# EAGLE library part ISM300F2 (library ISM300F2)
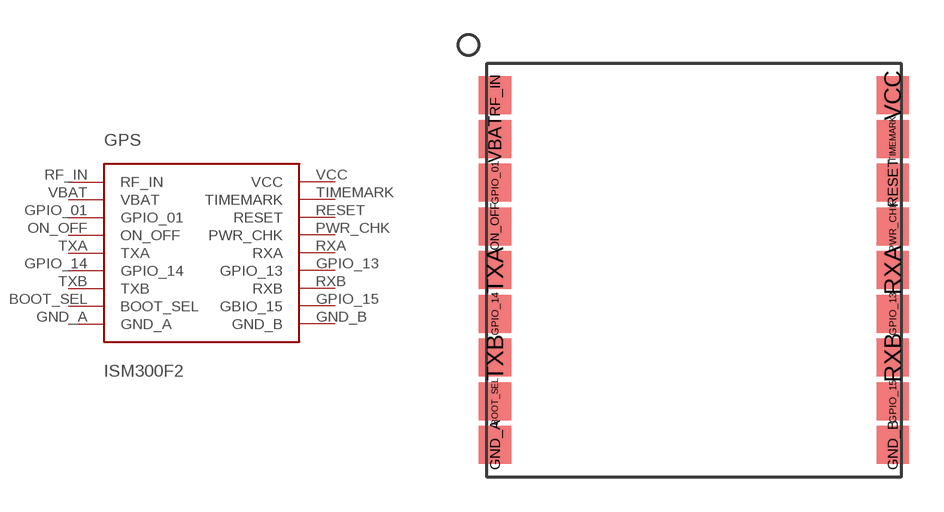
[diagram p0: symbol with the pads of ISM300F2; footprint ISM300F2]

Designator prefix GPS

## ISM300F2  [ISM300F2]
BOOT_SEL  BOOT_SEL
GND_A  GND_A
GND_B  GND_B
GPIO_01  GPIO_01
GPIO_13  GPIO_13
GPIO_14  GPIO_14
GPIO_15  GBIO_15
ON_OFF  ON_OFF
PWR_CHK  PWR_CHK
RESET  RESET
RF_IN  RF_IN
RXA  RXA
RXB  RXB
TIMEMARK  TIMEMARK
TXA  TXA
TXB  TXB
VBAT  VBAT
VCC  VCC

## Footprint ISM300F2 (pad centres in mm)
smd 1.4 x 1.65: BOOT_SEL -8.637,-5.7; GND_A -8.637,-7.6; GND_B 8.637,-7.6; GPIO_01 -8.637,3.8; GPIO_13 8.637,-1.9; GPIO_14 -8.637,-1.9; GPIO_15 8.637,-5.7; ON_OFF -8.637,1.9; PWR_CHK 8.637,1.9; RESET 8.637,3.8; RF_IN -8.637,7.6; RXA 8.637,0; RXB 8.637,-3.8; TIMEMARK 8.637,5.7; TXA -8.637,0; TXB -8.637,-3.8; VBAT -8.637,5.7; VCC 8.637,7.6